# Altium schematic symbol library LDL1117S33R.SchLib: 1 symbol
Pins are listed as number, name and electrical type; pins without a type are passive.

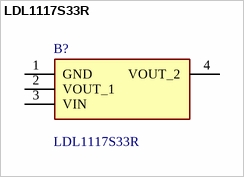
[diagram p0: symbol LDL1117S33R]

## LDL1117S33R
designator B?
STMICROELECTRONICS - LDL1117S33R - LDO, FIXED, 3.3V, 1.2A, SOT-223-3; Geometry.Height: 1.8mm; Farnell Part Number: *; Farnell Price/Stock: *; Manufacturer_Name: STMicroelectronics; Manufacturer_Part_Number: LDL1117S33R; Datasheet Link: https://www.st.com/resource/en/datasheet/ldl1117.pdf
footprint SOT230P700X180-4N
pins: 1 GND, 2 VOUT_1, 3 VIN, 4 VOUT_2